# EAGLE library part MAX542 (library harrison)
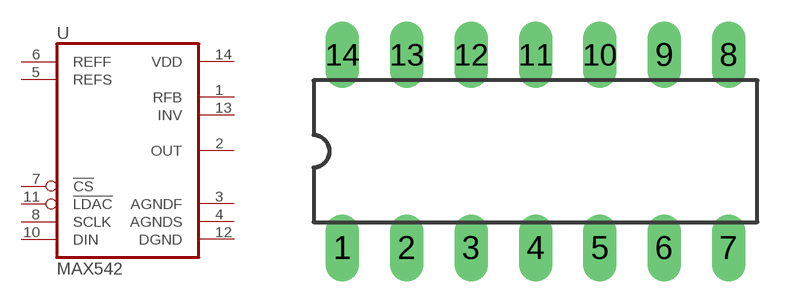
[diagram p62: symbol with the pads of DIL14; footprint DIL14]

Designator prefix U

## MAX542  [DIL14]
1  RFB  pas
2  OUT  out
3  AGNDF  pwr
4  AGNDS  pwr
5  REFS  in
6  REFF  in
7  !CS!  in
8  SCLK  in
10  DIN  in
11  !LDAC!  in
12  DGND  pwr
13  INV  pas
14  VDD  pwr

## Footprint DIL14 (pad centres in mm)
drill 0.813 long: 1 -7.62,-3.81; 2 -5.08,-3.81; 3 -2.54,-3.81; 4 0,-3.81; 5 2.54,-3.81; 6 5.08,-3.81; 7 7.62,-3.81; 8 7.62,3.81; 9 5.08,3.81; 10 2.54,3.81; 11 0,3.81; 12 -2.54,3.81; 13 -5.08,3.81; 14 -7.62,3.81